# Altium footprint library MSS1278-223ML.PcbLib: 1 footprints
Each footprint in its own frame and in the unit in brackets; x right, y up, seen from the top. Pads: shape width x height; smd on the part's side, far side on the other; paste and mask are expansions set on the pad; w line width, h text height; cw(c..) or ccw(c..) is an arc to the next point about the centre after c.
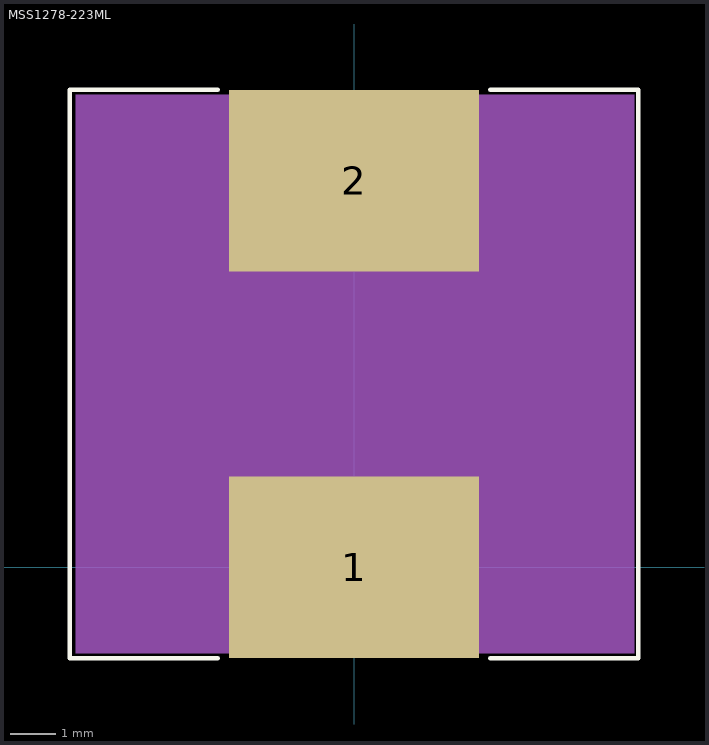
[diagram p0: the footprint, top view; thin cyan lines are the x and y axes]

## MSS1278-223ML [mm]
height 8
pads (2):
  rect 5.5x4 smd: 1(0,0) 2(0,8.5)
Top Overlay:
  lines w0.1: -3,-2 -6.25,-2 -6.25,10.5 -3,10.5 ; 3,-2 6.25,-2 6.25,10.5 3,10.5
Mechanical 15:
  rectangle: -6.125,-1.9 6.175,10.4
3D body: height 8, standoff 0, extent -5.5,-1.5 5.75,10